# Altium footprint library HC1-100-R.PcbLib: 1 footprints
Each footprint in its own frame and in the unit in brackets; x right, y up, seen from the top. Pads: shape width x height; smd on the part's side, far side on the other; paste and mask are expansions set on the pad; w line width, h text height; cw(c..) or ccw(c..) is an arc to the next point about the centre after c.
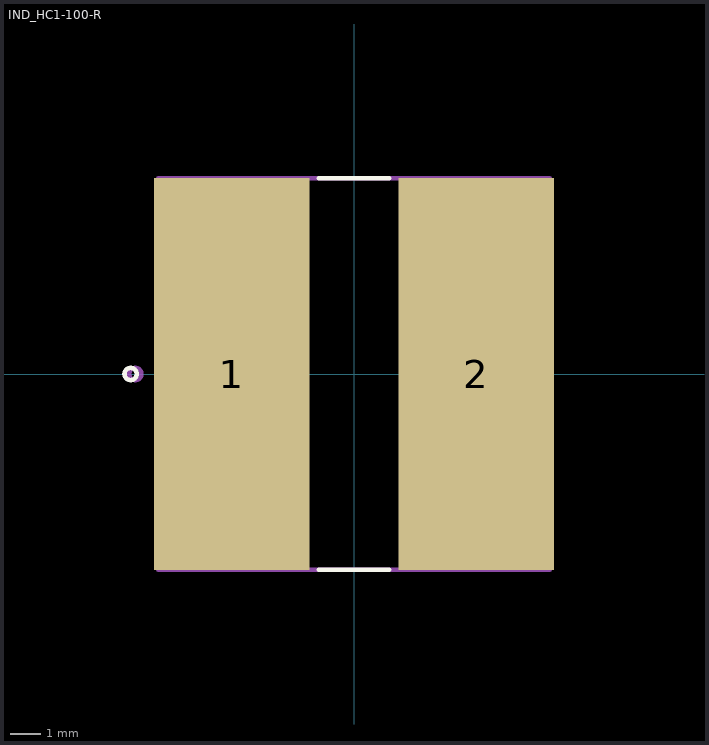
[diagram p0: the footprint, top view; thin cyan lines are the x and y axes]

## IND_HC1-100-R [mil]
pads (2):
  rect 203x512 smd: 1(-160,0) 2(160,0)
Top Overlay:
  lines w6: -46,-256 46,-256 ; -46,256 46,256 ; -300,0 cw(c-292,0) -284,0 cw(c-292,0) -300,0
Mechanical 13:
  lines w6: -294,0 cw(c-286,0) -278,0 cw(c-286,0) -294,0 ; -256,-256 -256,256 256,256 256,-256 -256,-256